# EAGLE library part SP314 (library dec-con)
7-Input NOR gate
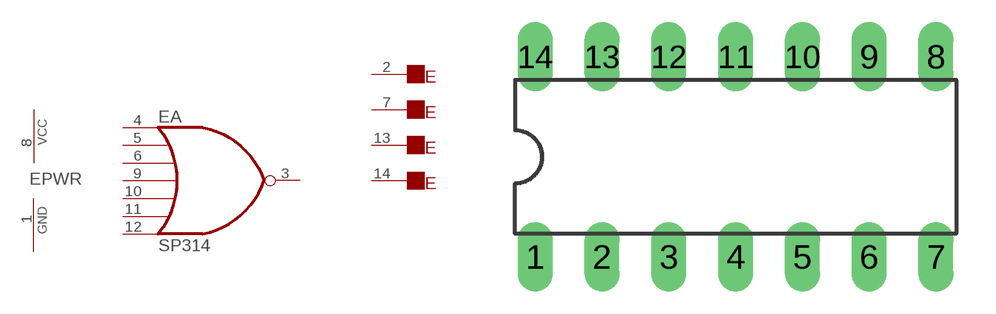
[diagram p13: symbol with the pads of DIL14; footprint DIL14]

Designator prefix E; gates PWR=PWRN A=NOR7 2=NC 7=NC 13=NC 14=NC

## SP314N  [DIL14]
1  PWR:GND  pwr
2  2:NC  pas
3  A:O  out
4  A:I0  in
5  A:I1  in
6  A:I2  in
7  7:NC  pas
8  PWR:VCC  pwr
9  A:I3  in
10  A:I4  in
11  A:I5  in
12  A:I6  in
13  13:NC  pas
14  14:NC  pas

## Footprint DIL14 (pad centres in mm)
Dual In Line Package
drill 0.813 long: 1 -7.62,-3.81; 2 -5.08,-3.81; 3 -2.54,-3.81; 4 0,-3.81; 5 2.54,-3.81; 6 5.08,-3.81; 7 7.62,-3.81; 8 7.62,3.81; 9 5.08,3.81; 10 2.54,3.81; 11 0,3.81; 12 -2.54,3.81; 13 -5.08,3.81; 14 -7.62,3.81